# Altium schematic symbol library 0007-Optical_Tracker.SCHLIB: 17 symbols
Pins are listed as number, name and electrical type; pins without a type are passive.

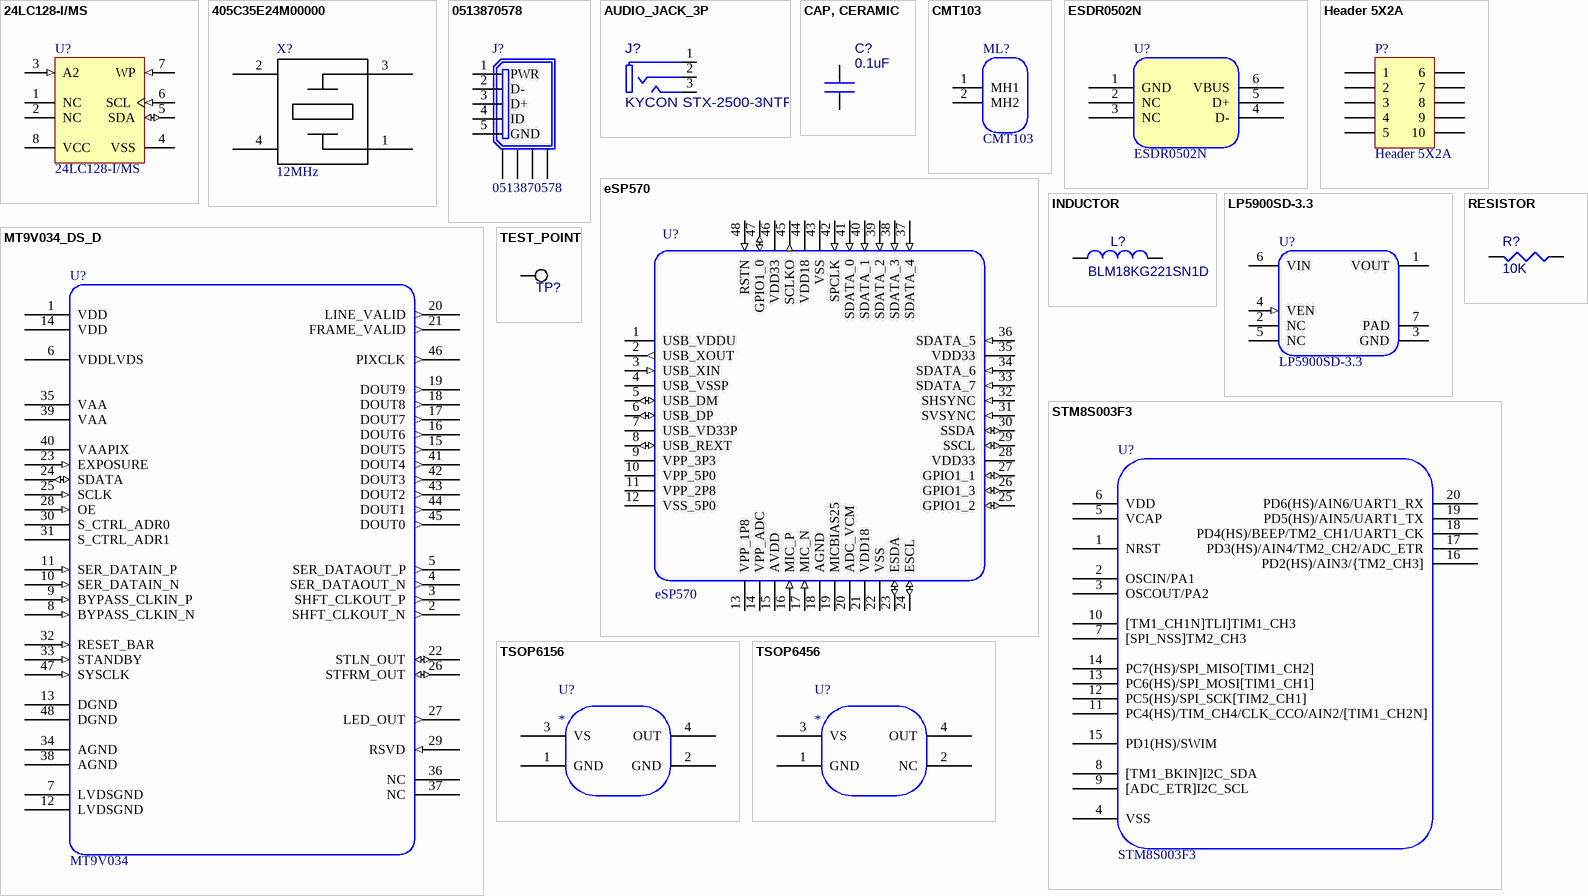
[diagram p0: symbols 24LC128-I/MS to TSOP6456]

## 24LC128-I/MS
designator U?
128Kbit, 400kHz, 2.5V, I2C Serial EEPROM, 8-Pin MSOP, Industrial Temperature; Published: 29-Jan-2009; DatasheetVersion: revR, Apr-2009; PackageVersion: revBB, Aug-2009; PackageReference: MSOP-MS8; Publisher: Altium Limited; PackageDescription: 8-Lead Plastic Micro Small Outline Package (MS) [MSOP]; Supplier 1: Digi-Key; Supplier Part Number 1: 24LC128-I/MS-ND; ComponentLink1Description: Datasheet; ComponentLink1URL: http://ww1.microchip.com/downloads/en/DeviceDoc/21191R.pdf; ComponentLink2Description: Packaging Specification; ComponentLink2URL: http://www.microchip.com/stellent/groups/techpub_sg/documents/packagingspec/en012702.pdf; ComponentLink3Description: Microchip.com Home; ComponentLink3URL: http://www.microchip.com/
footprint MSOP-MS8_N (TSOP, 8-Leads, Body 3x3mm, Pitch 0.65mm, IPC Medium Density)
footprint MSOP-MS8_L (TSOP, 8-Leads, Body 3x3mm, Pitch 0.65mm, IPC High Density)
footprint MSOP-MS8_M (TSOP, 8-Leads, Body 3x3mm, Pitch 0.65mm, IPC Low Density)
pins: 1 NC, 2 NC, 3 A2 (in), 4 VSS (power), 5 SDA (io), 6 SCL (in), 7 WP (in), 8 VCC (power)

## 405C35E24M00000
designator X?, comment 12MHz
CRYSTAL 12MHZ 20PF SMD; Supplier 1: Digi-Key; Supplier Part Number 1: CTX819CT-ND
footprint 4-SMD
pins: 1, 2, 3, 4

## 0513870578
designator J?
CONN RECEPT MINIUSB R/A 5POS SMD; Supplier 1: Digi-Key; Supplier Part Number 1: WM5462CT-ND
footprint 0513870578 (CONN RECEPT MINIUSB R/A 5POS SMD)
pins: 1 PWR (power), 2 D- (hiz), 3 D+ (hiz), 4 ID, 5 GND (power), 6 SHIELD, 7 SHIELD, 8 SHIELD, 9 SHIELD

## AUDIO_JACK_3P
designator J?, comment KYCON STX-2500-3NTR
Manufacturer: *; ManufacturerPN: KYCON STX-2500-3NTR; Supplier 1: Mouser; Supplier Part Number 1: 806-STX-2500-3NTR
footprint KYCON_STX2500
pins: 1, 2, 3

## CAP, CERAMIC
designator C?, comment 0.1uF
CAP CER 0.1UF 6.3V 20% X5R 0402; Supplier 1: Digi-Key; Supplier Part Number 1: 399-8944-1-ND
footprint 0402
footprint CAP_CERAMIC_0603
footprint CAP_CERAMIC_0402
pins: 1, 2

## CMT103
designator ML?  (no BOM)
Lens holder, M12x0.5, 16.2, centered; Part Number: CMT103
footprint CMT103
pins: 1 MH1, 2 MH2

## ESDR0502N
designator U?  (no BOM)
TVS ARRAY LOW CAP 6UDFN; Supplier 1: Digi-Key; Supplier Part Number 1: ESDR0502NMUTBGOSCT-ND
pins: 1 GND (power), 2 NC, 3 NC, 4 D- (power), 5 D+ (power), 6 VBUS (power)

## eSP570
designator U?
USB 2.0 Camera Bridge Controller
footprint LQFP-48_M (48-Pin Thin Quad Flat Pack 0.5 mm Pitch, IPC Low Density)
pins: 1 USB_VDDU (power), 2 USB_XOUT (out), 3 USB_XIN (in), 4 USB_VSSP (power), 5 USB_DM (io), 6 USB_DP (io), 7 USB_VD33P (power), 8 USB_REXT (io), 9 VPP_3P3 (power), 10 VPP_5P0 (power), 11 VPP_2P8 (power), 12 VSS_5P0 (power), 13 VPP_1P8 (power), 14 VPP_ADC (power), 15 AVDD (power), 16 MIC_P (in), 17 MIC_N (in), 18 AGND (power), 19 MICBIAS25 (power), 20 ADC_VCM (power), 21 VDD18 (power), 22 VSS (power), 23 ESDA (io), 24 ESCL (io), 25 GPIO1_2 (io), 26 GPIO1_3 (io), 27 GPIO1_1 (io), 28 VDD33 (power), 29 SSCL (io), 30 SSDA (io), 31 SVSYNC (in), 32 SHSYNC (in), 33 SDATA_7 (in), 34 SDATA_6 (in), 35 VDD33 (power), 36 SDATA_5 (in), 37 SDATA_4 (in), 38 SDATA_3 (in), 39 SDATA_2 (in), 40 SDATA_1 (in), 41 SDATA_0 (in), 42 SPCLK (in), 43 VSS (power), 44 VDD18 (power), 45 SCLKO (out), 46 VDD33 (power), 47 GPIO1_0 (io), 48 RSTN (in)

## Header 5X2A
designator P?  (no BOM)
Header, 5-Pin, Dual row
footprint HDR2X5_CEN (Connector; Header; 5x2 Position)
signal-integrity model Connector
pins: 1, 2, 3, 4, 5, 6, 7, 8, 9, 10

## INDUCTOR
designator L?, comment BLM18KG221SN1D
FERRITE CHIP 220 OHM 2200MA 0603; Manufacturer: Murata; Part Number: BLM18KG221SN1D; Package: 0603; Supplier 1: Digi-Key; Supplier Part Number 1: 490-5255-1-ND
footprint INDUCTOR_0603
pins: 1, 2

## LP5900SD-3.3
designator U?
IC, LINEAR REGULATOR, 3.3V, 150MA, ULTRA LOW NOISE; Manufacturer: NATIONAL SEMICONDUCTOR; Part Number: LP5900SD-3.3/NOPB; Pinout verified: *; Supplier 1: Digi-Key; Supplier Part Number 1: LP5900SD-3.3/NOPBCT-ND
footprint LLP-6
pins: 1 VOUT (power), 2 NC, 3 GND (power), 4 VEN (in), 5 NC, 6 VIN (power), 7 PAD (power)

## MT9V034_DS_D
designator U?, comment MT9V034
1/3" WVGA 60FPS CMOS Digital Image Sensor Global Shutter; Part Number: MT9V034C12STC; Supplier 1: Digi-Key; Supplier Part Number 1: 557-1454-ND
footprint CLCC-48
pins: 1 VDD (power), 2 SHFT_CLKOUT_N (out), 3 SHFT_CLKOUT_P (out), 4 SER_DATAOUT_N (out), 5 SER_DATAOUT_P (out), 6 VDDLVDS (power), 7 LVDSGND (power), 8 BYPASS_CLKIN_N (in), 9 BYPASS_CLKIN_P (in), 10 SER_DATAIN_N (in), 11 SER_DATAIN_P (in), 12 LVDSGND (power), 13 DGND (power), 14 VDD (power), 15 DOUT5 (out), 16 DOUT6 (out), 17 DOUT7 (out), 18 DOUT8 (out), 19 DOUT9 (out), 20 LINE_VALID (out), 21 FRAME_VALID (out), 22 STLN_OUT (io), 23 EXPOSURE (in), 24 SDATA (io), 25 SCLK (in), 26 STFRM_OUT (io), 27 LED_OUT (out), 28 OE (in), 29 RSVD (in), 30 S_CTRL_ADR0 (oc), 31 S_CTRL_ADR1 (oc), 32 RESET_BAR (in), 33 STANDBY (in), 34 AGND (power), 35 VAA (power), 36 NC (hiz), 37 NC (hiz), 38 AGND (power), 39 VAA (power), 40 VAAPIX (power), 41 DOUT4 (out), 42 DOUT3 (out), 43 DOUT2 (out), 44 DOUT1 (out), 45 DOUT0 (out), 46 PIXCLK (out), 47 SYSCLK (in), 48 DGND (power)

## RESISTOR
designator R?, comment 10K
RES 10K OHM 1/10W 1% 0402 SMD; Supplier 1: Digi-Key; Supplier Part Number 1: P10.0KLCT-ND
footprint RESISTOR_0603
footprint 0402
footprint RESISTOR_0402
pins: 1, 2

## STM8S003F3
designator U?
Supplier 1: Digi-Key; Supplier Part Number 1: 497-11946-5-ND
pins: 1 NRST, 2 OSCIN/PA1, 3 OSCOUT/PA2, 4 VSS (power), 5 VCAP (power), 6 VDD (power), 7 [SPI_NSS]TM2_CH3, 8 [TM1_BKIN]I2C_SDA, 9 [ADC_ETR]I2C_SCL, 10 [TM1_CH1N]TLI]TIM1_CH3, 11 PC4(HS)/TIM_CH4/CLK_CCO/AIN2/[TIM1_CH2N], 12 PC5(HS)/SPI_SCK[TIM2_CH1], 13 PC6(HS)/SPI_MOSI[TIM1_CH1], 14 PC7(HS)/SPI_MISO[TIM1_CH2], 15 PD1(HS)/SWIM, 16 PD2(HS)/AIN3/{TM2_CH3], 17 PD3(HS)/AIN4/TM2_CH2/ADC_ETR, 18 PD4(HS)/BEEP/TM2_CH1/UART1_CK, 19 PD5(HS)/AIN5/UART1_TX, 20 PD6(HS)/AIN6/UART1_RX

## TEST_POINT
designator TP?, comment TEST POINT  (value not drawn)  (no BOM)
Manufacturer: *; Part Number: *
footprint POGO PIN
footprint TEST_POINT_PAD (Footprint not found)
pins: 1

## TSOP6156
designator U?
pins: 1 GND (power), 2 GND (power), 3 VS (power), 4 OUT

## TSOP6456
designator U?
pins: 1 GND (power), 2 NC, 3 VS (power), 4 OUT